# Altium footprint library UOE MOSFET Board Footprints.PcbLib: 16 footprints
Each footprint in its own frame and in the unit in brackets; x right, y up, seen from the top. Pads: shape width x height; smd on the part's side, far side on the other; paste and mask are expansions set on the pad; w line width, h text height; cw(c..) or ccw(c..) is an arc to the next point about the centre after c.
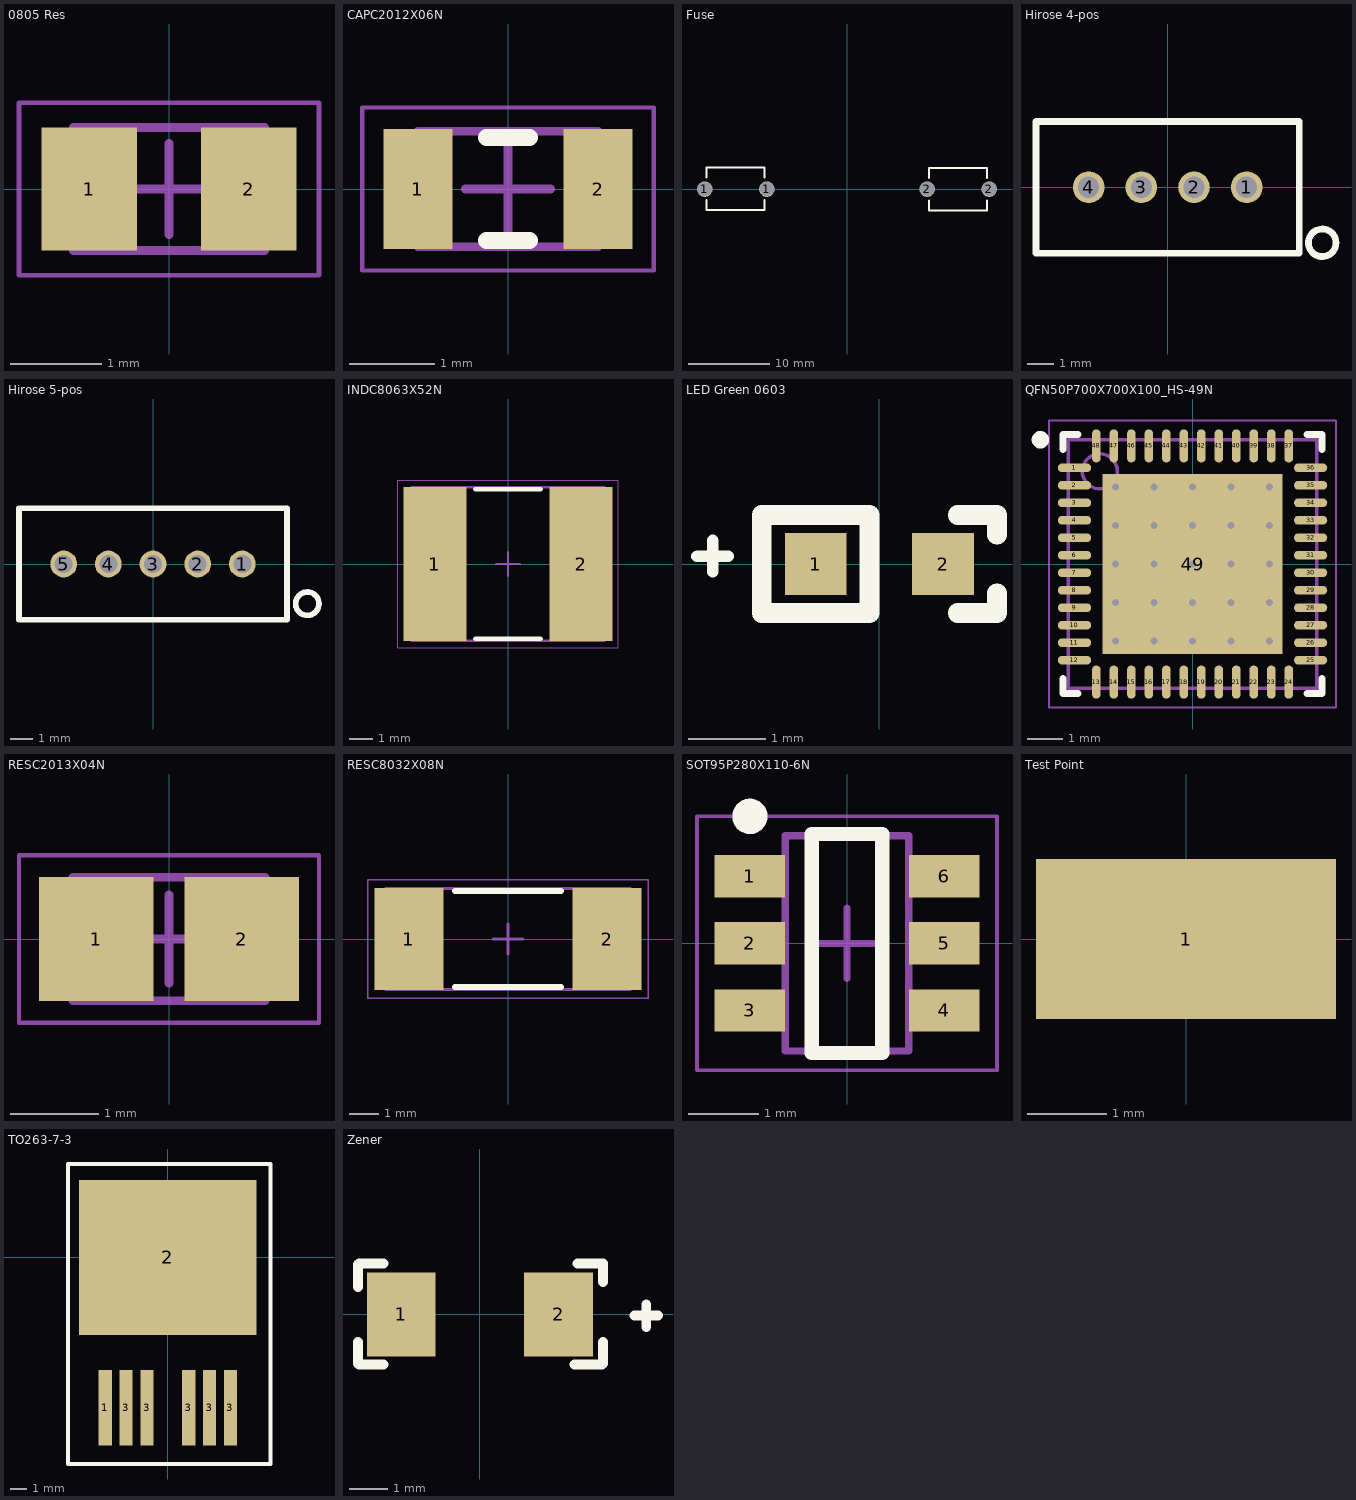
[diagram p0: the footprints below, top view; thin cyan lines are the x and y axes]

## 0805 Res [mm] "Chip Resistor, 2-Leads, Body 2.00x1.25mm, IPC Medium Density"
height 0.65
pads (2):
  rect 1.05x1.35 smd: 1(-0.875,0) 2(0.875,0)
Mechanical 13:
  lines w0.1: -1.05,-0.675 -1.05,0.675 1.05,0.675 1.05,-0.675 -1.05,-0.675
Mechanical 15:
  lines w0.05: -1.65,-0.95 -1.65,0.95 1.65,0.95 1.65,-0.95 -1.65,-0.95
  lines w0.1: -0.5,0 0.5,0 ; 0,-0.5 0,0.5
3D body: height 0.65, standoff 0, extent -0.65,-0.675 0.65,0.675
3D body: height 0.65, standoff 0, extent -1.05,-0.675 -0.65,0.675
3D body: height 0.65, standoff 0, extent 0.65,-0.675 1.05,0.675

## CAPC2012X06N [mm] "Chip Capacitor, 2-Leads, Body 2.00x1.25mm, IPC Medium Density"
height 1.35
pads (2):
  rect 0.8x1.4 smd: 1(-1.05,0) 2(1.05,0)
Top Overlay:
  lines w0.2: -0.25,-0.6 0.25,-0.6 ; -0.25,0.6 0.25,0.6
Mechanical 13:
  lines w0.1: -1.05,-0.675 -1.05,0.675 1.05,0.675 1.05,-0.675 -1.05,-0.675
Mechanical 15:
  lines w0.05: -1.7,-0.95 -1.7,0.95 1.7,0.95 1.7,-0.95 -1.7,-0.95
  lines w0.1: -0.5,0 0.5,0 ; 0,-0.5 0,0.5
3D body: height 0.6, standoff 0, extent -0.85,-0.675 0.85,0.675
3D body: height 0.6, standoff 0, extent -1.05,-0.675 -0.85,0.675
3D body: height 0.6, standoff 0, extent 0.85,-0.675 1.05,0.675

## Fuse [mm] "Clip holder"
height 10.4
pads (4):
  round 1.905 hole 1.74: 1(-17.46,0) 1(-9.84,0) 2(9.84,0) 2(17.46,0)
Top Overlay:
  lines w0.254: -17.221,-1.372 -17.221,-2.591 -10.111,-2.591 -10.111,-1.372 ; -17.221,1.422 -17.221,2.642 -10.111,2.642 -10.111,1.422 ; 10.058,-1.397 10.058,-2.616 17.168,-2.616 17.168,-1.397 ; 10.058,1.397 10.058,2.616 17.168,2.616 17.168,1.397

## Hirose 4-pos [mm]
height 4
pads (4):
  round 1.2 hole 0.8: 1(3,0) 2(1,0) 3(-1,0) 4(-3,0)
Top Overlay:
  circle w0.254: c5.867,-2.108 r0.524
  lines w0.254: -5,-2.5 -5,2.5 5,2.5 5,-2.5 -5,-2.5

## Hirose 5-pos [mm]
height 5
pads (5):
  round 1.2 hole 0.8: 1(4,0) 2(2,0) 3(0,0) 4(-2,0) 5(-4,0)
Top Overlay:
  circle w0.254: c6.909,-1.778 r0.524
  lines w0.254: -6,-2.5 -6,2.5 6,2.5 6,-2.5 -6,-2.5

## INDC8063X52N [mm] "Chip Inductor, 2-Leads, Body 8.00x6.30mm, IPC Medium Density"
height 5.2
pads (2):
  rect 2.72x6.62 smd: 1(-3.145,0) 2(3.145,0)
Top Overlay:
  lines w0.2: -1.4,-3.21 1.4,-3.21 ; -1.4,3.21 1.4,3.21
Mechanical 13:
  lines w0.1: -4.15,-3.3 -4.15,3.3 4.15,3.3 4.15,-3.3 -4.15,-3.3
Mechanical 15:
  lines w0.05: -4.75,-3.6 -4.75,3.6 4.75,3.6 4.75,-3.6 -4.75,-3.6
  lines w0.1: -0.5,0 0.5,0 ; 0,-0.5 0,0.5
3D body: height 5.2, standoff 0, extent -2.15,-3.3 2.15,3.3
3D body: height 5.2, standoff 0, extent -4.15,-3.3 -2.15,3.3
3D body: height 5.2, standoff 0, extent 2.15,-3.3 4.15,3.3

## LED Green 0603 [mm] "Green 572nm LED Indication - Discrete 2.2V 0603 (1608 Metric)"
height 55
pads (2):
  rect 0.8x0.8 smd: 1(-0.825,0) 2(0.825,0)
Top Overlay:
  lines w0.15: -2.362,0.102 -1.956,0.102 ; -2.159,-0.102 -2.159,0.305
  lines w0.254: 1.016,-0.635 1.524,-0.635 1.524,-0.381 ; 1.016,0.635 1.524,0.635 1.524,0.381 ; -1.524,-0.635 -0.127,-0.635 -0.127,0.635 -1.397,0.635 -1.524,0.635 -1.524,-0.635

## QFN50P700X700X100_HS-49N [mm] "QFN, 48-Leads, Body 7.00x7.00mm, Pitch 0.50mm, Thermal Pad 5.15x5.15mm, IPC Medium Density"
height 1
pads (49):
  oval 0.95x0.25 smd: 1(-3.375,2.75) 2(-3.375,2.25) 3(-3.375,1.75) 4(-3.375,1.25) 5(-3.375,0.75) 6(-3.375,0.25) 7(-3.375,-0.25) 8(-3.375,-0.75) 9(-3.375,-1.25) 10(-3.375,-1.75) 11(-3.375,-2.25) 12(-3.375,-2.75) 25(3.375,-2.75) 26(3.375,-2.25) 27(3.375,-1.75) 28(3.375,-1.25) 29(3.375,-0.75) 30(3.375,-0.25) 31(3.375,0.25) 32(3.375,0.75) 33(3.375,1.25) 34(3.375,1.75) 35(3.375,2.25) 36(3.375,2.75)
  oval 0.25x0.95 smd: 13(-2.75,-3.375) 14(-2.25,-3.375) 15(-1.75,-3.375) 16(-1.25,-3.375) 17(-0.75,-3.375) 18(-0.25,-3.375) 19(0.25,-3.375) 20(0.75,-3.375) 21(1.25,-3.375) 22(1.75,-3.375) 23(2.25,-3.375) 24(2.75,-3.375) 37(2.75,3.375) 38(2.25,3.375) 39(1.75,3.375) 40(1.25,3.375) 41(0.75,3.375) 42(0.25,3.375) 43(-0.25,3.375) 44(-0.75,3.375) 45(-1.25,3.375) 46(-1.75,3.375) 47(-2.25,3.375) 48(-2.75,3.375)
  rect 5.15x5.15 smd: 49(0,0)
via 2.2,-2.2 diameter 0.5 hole 0.2
via 1.1,-2.2 diameter 0.5 hole 0.2
via 0,-2.2 diameter 0.5 hole 0.2
via -1.1,-2.2 diameter 0.5 hole 0.2
via -2.2,-2.2 diameter 0.5 hole 0.2
via 2.2,-1.1 diameter 0.5 hole 0.2
via 1.1,-1.1 diameter 0.5 hole 0.2
via 0,-1.1 diameter 0.5 hole 0.2
via -1.1,-1.1 diameter 0.5 hole 0.2
via -2.2,-1.1 diameter 0.5 hole 0.2
via 2.2,0 diameter 0.5 hole 0.2
via 1.1,0 diameter 0.5 hole 0.2
via 0,0 diameter 0.5 hole 0.2
via -1.1,0 diameter 0.5 hole 0.2
via -2.2,0 diameter 0.5 hole 0.2
via 2.2,1.1 diameter 0.5 hole 0.2
via 1.1,1.1 diameter 0.5 hole 0.2
via 0,1.1 diameter 0.5 hole 0.2
via -1.1,1.1 diameter 0.5 hole 0.2
via -2.2,1.1 diameter 0.5 hole 0.2
via 2.2,2.2 diameter 0.5 hole 0.2
via 1.1,2.2 diameter 0.5 hole 0.2
via 0,2.2 diameter 0.5 hole 0.2
via -1.1,2.2 diameter 0.5 hole 0.2
via -2.2,2.2 diameter 0.5 hole 0.2
Top Overlay:
  circle w0.25: c-4.35,3.55 r0.125
  lines w0.2: -3.7,-3.275 -3.7,-3.7 -3.275,-3.7 ; -3.7,3.275 -3.7,3.7 -3.275,3.7 ; 3.275,-3.7 3.7,-3.7 3.7,-3.275 ; 3.275,3.7 3.7,3.7 3.7,3.275
Mechanical 13:
  circle w0.1: c-2.65,2.65 r0.5
  lines w0.1: -3.55,-3.55 3.55,-3.55 3.55,3.55 -3.55,3.55 -3.55,-3.55
Mechanical 15:
  lines w0.05: -4.1,-4.1 4.1,-4.1 4.1,4.1 -4.1,4.1 -4.1,-4.1
  lines w0.1: -0.5,0 0.5,0 ; 0,-0.5 0,0.5
3D body: height 1, standoff 0.01, extent -3.55,-3.55 3.55,3.55

## RESC2013X04N [mm] "Chip Resistor, 2-Leads, Body 2.03x1.27mm, IPC Medium Density"
height 0.39
pads (2):
  rect 1.3x1.4 smd: 1(-0.825,0) 2(0.825,0)
Mechanical 13:
  lines w0.1: -1.09,-0.7 -1.09,0.7 1.09,0.7 1.09,-0.7 -1.09,-0.7
Mechanical 15:
  lines w0.05: -1.7,-0.95 -1.7,0.95 1.7,0.95 1.7,-0.95 -1.7,-0.95
  lines w0.1: -0.5,0 0.5,0 ; 0,-0.5 0,0.5
3D body: height 0.39, standoff 0, extent -0.46,-0.7 0.46,0.7
3D body: height 0.39, standoff 0, extent -1.09,-0.7 -0.46,0.7
3D body: height 0.39, standoff 0, extent 0.46,-0.7 1.09,0.7

## RESC8032X08N [mm] "Chip Resistor, 2-Leads, Body 8.00x3.18mm, IPC Medium Density"
height 0.85
pads (2):
  rect 2.35x3.45 smd: 1(-3.35,0) 2(3.35,0)
Top Overlay:
  lines w0.2: -1.8,-1.625 1.8,-1.625 ; -1.8,1.625 1.8,1.625
Mechanical 13:
  lines w0.1: -4.15,-1.715 -4.15,1.715 4.15,1.715 4.15,-1.715 -4.15,-1.715
Mechanical 15:
  lines w0.05: -4.75,-2 -4.75,2 4.75,2 4.75,-2 -4.75,-2
  lines w0.1: -0.5,0 0.5,0 ; 0,-0.5 0,0.5
3D body: height 0.85, standoff 0, extent -2.85,-1.715 2.85,1.715
3D body: height 0.85, standoff 0, extent -4.15,-1.715 -2.85,1.715
3D body: height 0.85, standoff 0, extent 2.85,-1.715 4.15,1.715

## Shielded Wirewound Inductor [mm]
height 4

## SOT95P280X110-6N [mm] "SOT23, 6-Leads, Body 2.90x2.80mm, Pitch 0.95mm, IPC Medium Density"
height 1.1
pads (6):
  rect 1x0.6 smd: 1(-1.375,0.95) 2(-1.375,0) 3(-1.375,-0.95) 4(1.375,-0.95) 5(1.375,0) 6(1.375,0.95)
Top Overlay:
  circle w0.25: c-1.375,1.8 r0.125
  lines w0.2: -0.5,-1.55 0.5,-1.55 0.5,1.55 -0.5,1.55 -0.5,-1.55
Mechanical 13:
  lines w0.1: -0.875,-1.525 -0.875,1.525 0.875,1.525 0.875,-1.525 -0.875,-1.525
Mechanical 15:
  lines w0.05: -2.125,-1.8 -2.125,1.8 2.125,1.8 2.125,-1.8 -2.125,-1.8
  lines w0.1: -0.5,0 0.5,0 ; 0,-0.5 0,0.5
3D body: height 1.1, standoff 0.1, extent -0.875,-1.525 0.875,1.525

## Test Point [mm] "Keystone Electronics (5029)"
height 2.29
pads (1):
  rect 3.8x2.03 smd: 1(0,0)

## TO263-7-3 [mm]
height 4.4
pads (7):
  rect 0.8x4.6 smd: 1(-3.81,-9.15) 3(-2.54,-9.15) 3(-1.27,-9.15) 3(1.27,-9.15) 3(2.54,-9.15) 3(3.81,-9.15)
  rect 10.8x9.44 smd: 2(0,0)
Top Overlay:
  lines w0.254: -6.071,-12.573 6.248,-12.573 6.248,5.69 -6.071,5.69 -6.071,5.41 -6.071,-12.573

## VQFN-48 [mm]

## Zener [mil]
height 94.88
pads (2):
  rect 70x85 smd: 1(-80,0) 2(80,0)
Top Overlay:
  lines w10: -124,-50 -124,-28 ; -124,28 -124,51 -123,52 -98,52 ; -123,-51 -98,-51 ; 96,-51 124,-51 ; 99,52 125,52 125,33 ; 125,-50 125,-28 ; 157,-1 181,-1 ; 169,-13 169,10